# Altium integrated library LDO40LPU33RY.IntLib: 1 symbol
Pins are listed as number, name and electrical type; pins without a type are passive.

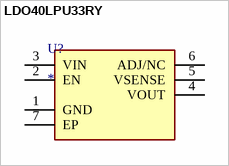
[diagram p0: symbol LDO40LPU33RY]

## LDO40LPU33RY
designator U?
400MA 38V LOW-DROPOUT REGULATOR; Manufacturer 1: STMicroelectronics; Manufacturer Part Number 1: LDO40LPU33RY; Description: LDO Regulator Pos 3.3V 0.4A Automotive 6-Pin DFN EP T/R; Supplier 1: Digi-Key; Stock 1: 2198; Pricing 1: 1=1.94000, 10=1.74700, 100=1.40410, 500=1.15360, 1000=0.95584 (USD); RoHS: No; Supplier 2: Digi-Key; Manufacturer 2: STMicroelectronics; Manufacturer Part Number 2: LDO40LPU33RY; Stock 2: 2198; Pricing 2: 1=1.94000, 10=1.74700, 100=1.40410, 500=1.15360, 1000=0.95584 (USD)
footprint 6-DFN
pins: 1 GND, 2 EN, 3 VIN, 4 VOUT, 5 VSENSE, 6 ADJ/NC, 7 EP